# EAGLE library part TPL7407LA (library omcTransistor)
TPL7407LA 30-V 7-Channel Low Side Driver 600-mA Rated Drain Current (Per Channel) CMOS Pin-to-Pin Improvement of 7-channel Darlington Array (For example: ULN2003A) Power Efficient (Very low VOL): Less Than 4 Times Lower VOL at 100 mA Than Darlington Array Very Low Output Leakage < 10 nA Per Channel Extended Ambient Temperature Range: TA = –40°C to +125°C High-Voltage Outputs 30 V Compatible with 1.8-V to 5-V Microcontroller and Logic Interface Internal Free-wheeling Diodes for Inductive Kickback Protection Input Pull-down Resistors Allows Tri-stating the Input Driver Input RC-Snubber to Eliminate Spurious Operation in Noisy Environment Inductive Load Driver Applications VCM > 6.5V IGND,max = 2A TI Datasheet <https://www.ti.com/lit/ds/symlink/tpl7407la.pdf>
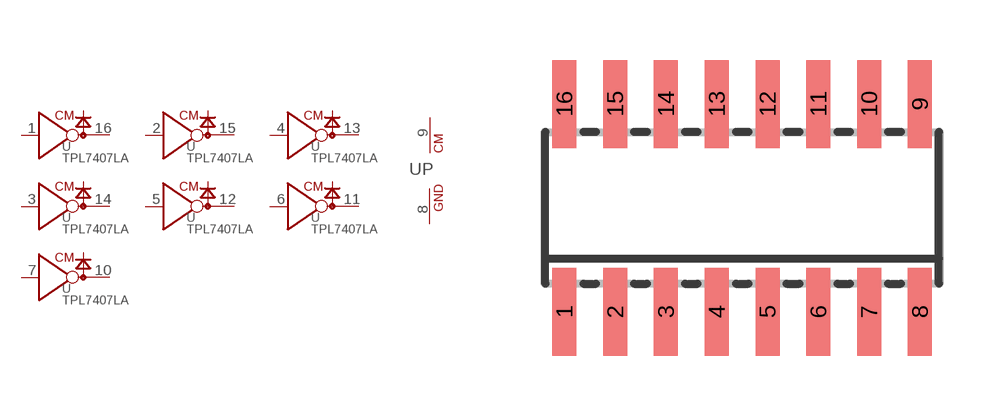
[diagram p2: symbol with the pads of SOIC16; footprint SOIC16]

Designator prefix U; gates P=GNDCM G$1=INVOC G$2=INVOC G$3=INVOC G$4=INVOC G$5=INVOC G$6=INVOC G$7=INVOC

## TPL7407LAD (DIST#MOUSER#: 595-TPL7407LADR; VALUE: TPL7407LA; VENDOR#: TI,TPL7407LADR)  [SOIC16]
1  G$1:IN  in
2  G$2:IN  in
3  G$4:IN  in
4  G$3:IN  in
5  G$5:IN  in
6  G$6:IN  in
7  G$7:IN  in
8  P:GND  pwr
9  P:CM+  pwr
10  G$7:OUT  oc
11  G$6:OUT  oc
12  G$5:OUT  oc
13  G$3:OUT  oc
14  G$4:OUT  oc
15  G$2:OUT  oc
16  G$1:OUT  oc

## Footprint SOIC16 (pad centres in mm)
SOIC16 SMD 10mm×4mm Wikipedia <https://en.wikipedia.org/wiki/Small_Outline_Integrated_Circuit>
smd 0.6 x 2.2: 1 -4.445,-2.6; 2 -3.175,-2.6; 3 -1.905,-2.6; 4 -0.635,-2.6; 5 0.635,-2.6; 6 1.905,-2.6; 7 3.175,-2.6; 8 4.445,-2.6; 9 4.445,2.6; 10 3.175,2.6; 11 1.905,2.6; 12 0.635,2.6; 13 -0.635,2.6; 14 -1.905,2.6; 15 -3.175,2.6; 16 -4.445,2.6